# EAGLE library part SN74HCT74 (library LOGIC)
IC D-TYPE POS TRG DUAL Datasheet <http://www.ti.com/lit/ds/symlink/sn74hct74.pdf>
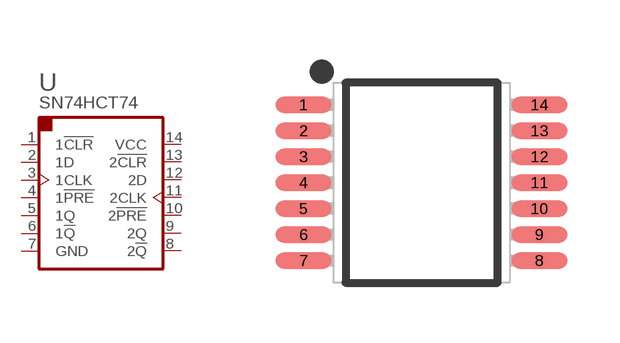
[diagram p1: symbol with the pads of TSSOP14; footprint TSSOP14]

Designator prefix U

## SN74HCT74PW (PARTNO: 01-100283-00)  [TSSOP14]
1  1!CLR  in
2  1D  in
3  1CLK  in
4  1!PRE  in
5  1Q  out
6  1!Q  out
7  GND  pwr
8  2!Q  out
9  2Q  out
10  2!PRE  in
11  2CLK  in
12  2D  in
13  2!CLR  in
14  VCC  pwr

## Footprint TSSOP14 (pad centres in mm)
TSSOP, 14-Leads, Body 5.00x4.40mm, Pitch 0.65mm, IPC Medium Density
smd 1.4 x 0.4: 1 -2.95,1.95; 2 -2.95,1.3; 3 -2.95,0.65; 4 -2.95,0; 5 -2.95,-0.65; 6 -2.95,-1.3; 7 -2.95,-1.95; 8 2.95,-1.95; 9 2.95,-1.3; 10 2.95,-0.65; 11 2.95,0; 12 2.95,0.65; 13 2.95,1.3; 14 2.95,1.95